# Altium integrated library Linear Technology Power Management Switching Regulator LTC1174-LTC3901.IntLib: 2647 symbols (part 248 of 364)
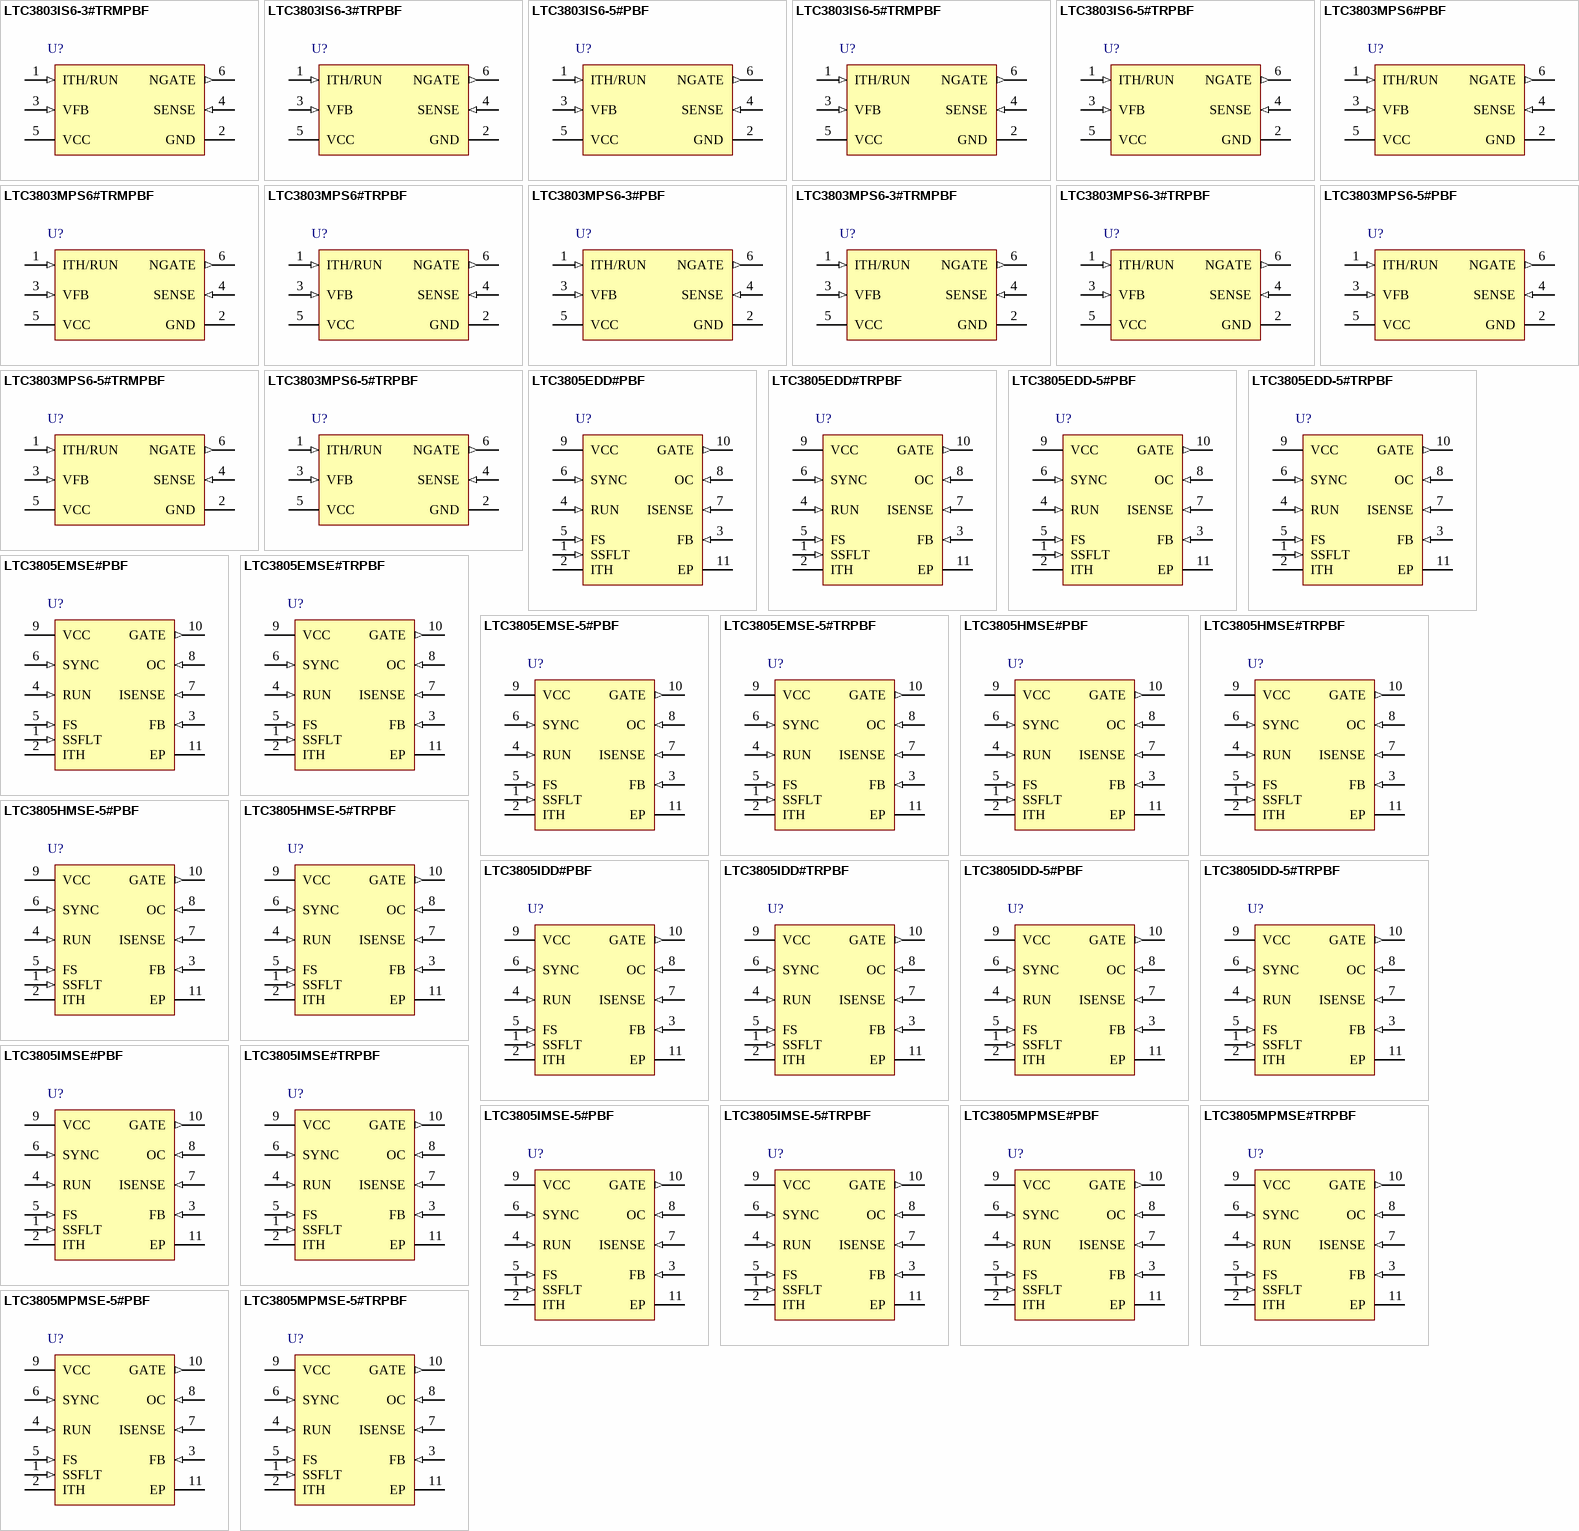
[diagram p243: symbols LTC3803IS6-3#TRMPBF to LTC3805MPMSE-5#TRPBF]

## LTC3805HMSE-5#PBF
designator U?
Adjustable Frequency Current Mode Flyback / Boost / SEPIC DC/DC Controller, 10-pin SOP (MSE-10-EDP), -40 to 150 degC, Pb-Free; Manufacturer: Linear Technology; PartNumber: LTC3805HMSE-5#PBF; Frequency Sync Range: 70kHz - 700kHz; Number of Outputs: 1; DatasheetVersion: Rev. E; PackageVersion: Rev. I, 05/2013; PackageReference: MSE-10; PackageDescription: 10-Pin Plastic MSOP, Exposed Die Pad, Body 3 x 3 mm, Pitch 0.5 mm; Supplier 1: Digi-Key; Supplier Part Number 1: LTC3805HMSE-5#PBF-ND; Supplier 2: Farnell; Supplier Part Number 2: 1696248; Supplier 3: Newark; Supplier Part Number 3: 51P3119; RoHS: TRUE; Mounting Technology: Surface Mount; ComponentLink1Description: Manufacturer URL; ComponentLink1URL: http://www.linear.com/; ComponentLink2Description: Datasheet; ComponentLink2URL: http://cds.linear.com/docs/en/datasheet/38055fd.pdf; ComponentLink3Description: Package Specification; ComponentLink3URL: http://cds.linear.com/docs/en/packaging/05081664_I_MSE.pdf
footprint LT-MSE-10-EDP_N (SOP, 10-Leads, Body 3.1x3.1mm, Pitch 0.5mm, Thermal Pad 1.88x1.68mm, IPC Medium Density)
footprint LT-MSE-10-EDP_L (SOP, 10-Leads, Body 3.1x3.1mm, Pitch 0.5mm, Thermal Pad 1.88x1.68mm, IPC High Density)
footprint LT-MSE-10-EDP_M (SOP, 10-Leads, Body 3.1x3.1mm, Pitch 0.5mm, Thermal Pad 1.88x1.68mm, IPC Low Density)
pins: 1 SSFLT (in) "Soft-Start Pin. A capacitor placed from this pin to GND (Exposed Pad) controls the rate of rise of converter output voltage during start-up. This capacitor is also used for time out after a fault prior to restart.", 2 ITH "Error Amplifier Compensation Point. Normal operating voltage range is clamped between 0.7V and 1.9V.", 3 FB (in) "Receives the feedback voltage from an external resistor divider across the output.", 4 RUN (in) "An external resistor divider connects this pin to VIN and sets the thresholds for converter operation.", 5 FS (in) "A resistor connected from this pin to ground sets the frequency of operation.", 6 SYNC (in) "Input to synchronize the oscillator to an external source.", 7 ISENSE (in) "Performs two functions: for current mode control, it monitors the switch current, using the voltage across an external current sense resistor. Pin 7 also injects a current ramp that develops slope compensation voltage across (See Datasheet)", 8 OC (in) "Overcurrent Pin. Connect this pin to the external switch current sense resistor. An additional resistor programs the overcurrent trip level.", 9 VCC (power) "Supply Pin. A capacitor must closely decouple VCC to GND (Exposed Pad).", 10 GATE (out) "Gate Drive for the External N-Channel MOSFET. This pin swings from GND to VCC.", 11 EP (power) "Ground. A capacitor must closely decouple GND to VCC (Pin 9). The exposed pad must be soldered to electrical ground on PCB for electrical contact and rated thermal performance."

## LTC3805HMSE-5#TRPBF
designator U?
Adjustable Frequency Current Mode Flyback / Boost / SEPIC DC/DC Controller, 10-pin SOP (MSE-10-EDP), -40 to 150 degC, Pb-Free, Tape and Reel; Manufacturer: Linear Technology; PartNumber: LTC3805HMSE-5#TRPBF; Frequency Sync Range: 70kHz - 700kHz; Number of Outputs: 1; DatasheetVersion: Rev. E; PackageVersion: Rev. I, 05/2013; PackageReference: MSE-10; PackageDescription: 10-Pin Plastic MSOP, Exposed Die Pad, Body 3 x 3 mm, Pitch 0.5 mm; Supplier 1: Digi-Key; Supplier Part Number 1: LTC3805HMSE-5#TRPBF-ND; Packing: Tape and Reel; RoHS: TRUE; Mounting Technology: Surface Mount; ComponentLink1Description: Manufacturer URL; ComponentLink1URL: http://www.linear.com/; ComponentLink2Description: Datasheet; ComponentLink2URL: http://cds.linear.com/docs/en/datasheet/38055fd.pdf; ComponentLink3Description: Package Specification; ComponentLink3URL: http://cds.linear.com/docs/en/packaging/05081664_I_MSE.pdf
footprint LT-MSE-10-EDP_N (SOP, 10-Leads, Body 3.1x3.1mm, Pitch 0.5mm, Thermal Pad 1.88x1.68mm, IPC Medium Density)
footprint LT-MSE-10-EDP_L (SOP, 10-Leads, Body 3.1x3.1mm, Pitch 0.5mm, Thermal Pad 1.88x1.68mm, IPC High Density)
footprint LT-MSE-10-EDP_M (SOP, 10-Leads, Body 3.1x3.1mm, Pitch 0.5mm, Thermal Pad 1.88x1.68mm, IPC Low Density)
pins: 1 SSFLT (in) "Soft-Start Pin. A capacitor placed from this pin to GND (Exposed Pad) controls the rate of rise of converter output voltage during start-up. This capacitor is also used for time out after a fault prior to restart.", 2 ITH "Error Amplifier Compensation Point. Normal operating voltage range is clamped between 0.7V and 1.9V.", 3 FB (in) "Receives the feedback voltage from an external resistor divider across the output.", 4 RUN (in) "An external resistor divider connects this pin to VIN and sets the thresholds for converter operation.", 5 FS (in) "A resistor connected from this pin to ground sets the frequency of operation.", 6 SYNC (in) "Input to synchronize the oscillator to an external source.", 7 ISENSE (in) "Performs two functions: for current mode control, it monitors the switch current, using the voltage across an external current sense resistor. Pin 7 also injects a current ramp that develops slope compensation voltage across (See Datasheet)", 8 OC (in) "Overcurrent Pin. Connect this pin to the external switch current sense resistor. An additional resistor programs the overcurrent trip level.", 9 VCC (power) "Supply Pin. A capacitor must closely decouple VCC to GND (Exposed Pad).", 10 GATE (out) "Gate Drive for the External N-Channel MOSFET. This pin swings from GND to VCC.", 11 EP (power) "Ground. A capacitor must closely decouple GND to VCC (Pin 9). The exposed pad must be soldered to electrical ground on PCB for electrical contact and rated thermal performance."

## LTC3805IDD#PBF
designator U?
Adjustable Frequency Current Mode Flyback DC/DC Controller, 10-pin SON (DD-10), -40 to 125 degC, Pb-Free; Manufacturer: Linear Technology; PartNumber: LTC3805IDD#PBF; Frequency Sync Range: 70kHz - 700kHz; Number of Outputs: 1; DatasheetVersion: Rev. G; PackageVersion: Rev. C, 06/2010; PackageReference: DD-10; PackageDescription: 10-Pin Plastic DFN, Body 3 x 3 mm, Pitch 0.5 mm; Supplier 1: Digi-Key; Supplier Part Number 1: LTC3805IDD#PBF-ND; RoHS: TRUE; Mounting Technology: Surface Mount; Code_JEDEC: MO-229; ComponentLink1Description: Manufacturer URL; ComponentLink1URL: http://www.linear.com/; ComponentLink2Description: Datasheet; ComponentLink2URL: http://cds.linear.com/docs/en/datasheet/3805fg.pdf; ComponentLink3Description: Package Specification; ComponentLink3URL: http://cds.linear.com/docs/en/packaging/DFN_10_05-08-1699.pdf
footprint LT-DD-10_V (SON, 10-Leads, Body 3x3mm, Pitch 0.5mm, Thermal Pad 2.38x1.65mm)
pins: 1 SSFLT (in) "Soft-Start Pin. A capacitor placed from this pin to GND (Exposed Pad) controls the rate of rise of converter output voltage during start-up. This capacitor is also used for time out after a fault prior to restart.", 2 ITH "Error Amplifier Compensation Point. Normal operating voltage range is clamped between 0.7V and 1.9V.", 3 FB (in) "Receives the feedback voltage from an external resistor divider across the output.", 4 RUN (in) "An external resistor divider connects this pin to VIN and sets the thresholds for converter operation.", 5 FS (in) "A resistor connected from this pin to ground sets the frequency of operation.", 6 SYNC (in) "Input to synchronize the oscillator to an external source.", 7 ISENSE (in) "Performs two functions: for current mode control, it monitors the switch current, using the voltage across an external current sense resistor. Pin 7 also injects a current ramp that develops slope compensation voltage across (See Datasheet)", 8 OC (in) "Overcurrent Pin. Connect this pin to the external switch current sense resistor. An additional resistor programs the overcurrent trip level.", 9 VCC (power) "Supply Pin. A capacitor must closely decouple VCC to GND (Exposed Pad).", 10 GATE (out) "Gate Drive for the External N-Channel MOSFET. This pin swings from GND to VCC.", 11 EP (power) "Ground. A capacitor must closely decouple GND to VCC (Pin 9). The exposed pad must be soldered to electrical ground on PCB for electrical contact and rated thermal performance."

## LTC3805IDD#TRPBF
designator U?
Adjustable Frequency Current Mode Flyback DC/DC Controller, 10-pin SON (DD-10), -40 to 125 degC, Pb-Free, Tape and Reel; Manufacturer: Linear Technology; PartNumber: LTC3805IDD#TRPBF; Frequency Sync Range: 70kHz - 700kHz; Number of Outputs: 1; DatasheetVersion: Rev. G; PackageVersion: Rev. C, 06/2010; PackageReference: DD-10; PackageDescription: 10-Pin Plastic DFN, Body 3 x 3 mm, Pitch 0.5 mm; Supplier 1: Digi-Key; Supplier Part Number 1: LTC3805IDD#TRPBF-ND; Packing: Tape and Reel; RoHS: TRUE; Mounting Technology: Surface Mount; Code_JEDEC: MO-229; ComponentLink1Description: Manufacturer URL; ComponentLink1URL: http://www.linear.com/; ComponentLink2Description: Datasheet; ComponentLink2URL: http://cds.linear.com/docs/en/datasheet/3805fg.pdf; ComponentLink3Description: Package Specification; ComponentLink3URL: http://cds.linear.com/docs/en/packaging/DFN_10_05-08-1699.pdf
footprint LT-DD-10_V (SON, 10-Leads, Body 3x3mm, Pitch 0.5mm, Thermal Pad 2.38x1.65mm)
pins: 1 SSFLT (in) "Soft-Start Pin. A capacitor placed from this pin to GND (Exposed Pad) controls the rate of rise of converter output voltage during start-up. This capacitor is also used for time out after a fault prior to restart.", 2 ITH "Error Amplifier Compensation Point. Normal operating voltage range is clamped between 0.7V and 1.9V.", 3 FB (in) "Receives the feedback voltage from an external resistor divider across the output.", 4 RUN (in) "An external resistor divider connects this pin to VIN and sets the thresholds for converter operation.", 5 FS (in) "A resistor connected from this pin to ground sets the frequency of operation.", 6 SYNC (in) "Input to synchronize the oscillator to an external source.", 7 ISENSE (in) "Performs two functions: for current mode control, it monitors the switch current, using the voltage across an external current sense resistor. Pin 7 also injects a current ramp that develops slope compensation voltage across (See Datasheet)", 8 OC (in) "Overcurrent Pin. Connect this pin to the external switch current sense resistor. An additional resistor programs the overcurrent trip level.", 9 VCC (power) "Supply Pin. A capacitor must closely decouple VCC to GND (Exposed Pad).", 10 GATE (out) "Gate Drive for the External N-Channel MOSFET. This pin swings from GND to VCC.", 11 EP (power) "Ground. A capacitor must closely decouple GND to VCC (Pin 9). The exposed pad must be soldered to electrical ground on PCB for electrical contact and rated thermal performance."

## LTC3805IDD-5#PBF
designator U?
Adjustable Frequency Current Mode Flyback / Boost / SEPIC DC/DC Controller, 10-pin SON (DD-10), -40 to 125 degC, Pb-Free; Manufacturer: Linear Technology; PartNumber: LTC3805IDD-5#PBF; Frequency Sync Range: 70kHz - 700kHz; Number of Outputs: 1; DatasheetVersion: Rev. E; PackageVersion: Rev. C, 06/2010; PackageReference: DD-10; PackageDescription: 10-Pin Plastic DFN, Body 3 x 3 mm, Pitch 0.5 mm; Supplier 1: Digi-Key; Supplier Part Number 1: LTC3805IDD-5#PBF-ND; RoHS: TRUE; Mounting Technology: Surface Mount; Code_JEDEC: MO-229; ComponentLink1Description: Manufacturer URL; ComponentLink1URL: http://www.linear.com/; ComponentLink2Description: Datasheet; ComponentLink2URL: http://cds.linear.com/docs/en/datasheet/38055fd.pdf; ComponentLink3Description: Package Specification; ComponentLink3URL: http://cds.linear.com/docs/en/packaging/DFN_10_05-08-1699.pdf
footprint LT-DD-10_V (SON, 10-Leads, Body 3x3mm, Pitch 0.5mm, Thermal Pad 2.38x1.65mm)
pins: 1 SSFLT (in) "Soft-Start Pin. A capacitor placed from this pin to GND (Exposed Pad) controls the rate of rise of converter output voltage during start-up. This capacitor is also used for time out after a fault prior to restart.", 2 ITH "Error Amplifier Compensation Point. Normal operating voltage range is clamped between 0.7V and 1.9V.", 3 FB (in) "Receives the feedback voltage from an external resistor divider across the output.", 4 RUN (in) "An external resistor divider connects this pin to VIN and sets the thresholds for converter operation.", 5 FS (in) "A resistor connected from this pin to ground sets the frequency of operation.", 6 SYNC (in) "Input to synchronize the oscillator to an external source.", 7 ISENSE (in) "Performs two functions: for current mode control, it monitors the switch current, using the voltage across an external current sense resistor. Pin 7 also injects a current ramp that develops slope compensation voltage across (See Datasheet)", 8 OC (in) "Overcurrent Pin. Connect this pin to the external switch current sense resistor. An additional resistor programs the overcurrent trip level.", 9 VCC (power) "Supply Pin. A capacitor must closely decouple VCC to GND (Exposed Pad).", 10 GATE (out) "Gate Drive for the External N-Channel MOSFET. This pin swings from GND to VCC.", 11 EP (power) "Ground. A capacitor must closely decouple GND to VCC (Pin 9). The exposed pad must be soldered to electrical ground on PCB for electrical contact and rated thermal performance."

## LTC3805IDD-5#TRPBF
designator U?
Adjustable Frequency Current Mode Flyback / Boost / SEPIC DC/DC Controller, 10-pin SON (DD-10), -40 to 125 degC, Pb-Free, Tape and Reel; Manufacturer: Linear Technology; PartNumber: LTC3805IDD-5#TRPBF; Frequency Sync Range: 70kHz - 700kHz; Number of Outputs: 1; DatasheetVersion: Rev. E; PackageVersion: Rev. C, 06/2010; PackageReference: DD-10; PackageDescription: 10-Pin Plastic DFN, Body 3 x 3 mm, Pitch 0.5 mm; Supplier 1: Digi-Key; Supplier Part Number 1: LTC3805IDD-5#TRPBF-ND; Packing: Tape and Reel; RoHS: TRUE; Mounting Technology: Surface Mount; Code_JEDEC: MO-229; ComponentLink1Description: Manufacturer URL; ComponentLink1URL: http://www.linear.com/; ComponentLink2Description: Datasheet; ComponentLink2URL: http://cds.linear.com/docs/en/datasheet/38055fd.pdf; ComponentLink3Description: Package Specification; ComponentLink3URL: http://cds.linear.com/docs/en/packaging/DFN_10_05-08-1699.pdf
footprint LT-DD-10_V (SON, 10-Leads, Body 3x3mm, Pitch 0.5mm, Thermal Pad 2.38x1.65mm)
pins: 1 SSFLT (in) "Soft-Start Pin. A capacitor placed from this pin to GND (Exposed Pad) controls the rate of rise of converter output voltage during start-up. This capacitor is also used for time out after a fault prior to restart.", 2 ITH "Error Amplifier Compensation Point. Normal operating voltage range is clamped between 0.7V and 1.9V.", 3 FB (in) "Receives the feedback voltage from an external resistor divider across the output.", 4 RUN (in) "An external resistor divider connects this pin to VIN and sets the thresholds for converter operation.", 5 FS (in) "A resistor connected from this pin to ground sets the frequency of operation.", 6 SYNC (in) "Input to synchronize the oscillator to an external source.", 7 ISENSE (in) "Performs two functions: for current mode control, it monitors the switch current, using the voltage across an external current sense resistor. Pin 7 also injects a current ramp that develops slope compensation voltage across (See Datasheet)", 8 OC (in) "Overcurrent Pin. Connect this pin to the external switch current sense resistor. An additional resistor programs the overcurrent trip level.", 9 VCC (power) "Supply Pin. A capacitor must closely decouple VCC to GND (Exposed Pad).", 10 GATE (out) "Gate Drive for the External N-Channel MOSFET. This pin swings from GND to VCC.", 11 EP (power) "Ground. A capacitor must closely decouple GND to VCC (Pin 9). The exposed pad must be soldered to electrical ground on PCB for electrical contact and rated thermal performance."

## LTC3805IMSE#PBF
designator U?
Adjustable Frequency Current Mode Flyback DC/DC Controller, 10-pin SOP (MSE-10-EDP), -40 to 125 degC, Pb-Free; Manufacturer: Linear Technology; PartNumber: LTC3805IMSE#PBF; Frequency Sync Range: 70kHz - 700kHz; Number of Outputs: 1; DatasheetVersion: Rev. G; PackageVersion: Rev. I, 05/2013; PackageReference: MSE-10; PackageDescription: 10-Pin Plastic MSOP, Exposed Die Pad, Body 3 x 3 mm, Pitch 0.5 mm; Supplier 1: Digi-Key; Supplier Part Number 1: LTC3805IMSE#PBF-ND; Supplier 2: Farnell; Supplier Part Number 2: 2295150; Supplier 3: Newark; Supplier Part Number 3: 72R5690; RoHS: TRUE; Mounting Technology: Surface Mount; ComponentLink1Description: Manufacturer URL; ComponentLink1URL: http://www.linear.com/; ComponentLink2Description: Datasheet; ComponentLink2URL: http://cds.linear.com/docs/en/datasheet/3805fg.pdf; ComponentLink3Description: Package Specification; ComponentLink3URL: http://cds.linear.com/docs/en/packaging/05081664_I_MSE.pdf
footprint LT-MSE-10-EDP_N (SOP, 10-Leads, Body 3.1x3.1mm, Pitch 0.5mm, Thermal Pad 1.88x1.68mm, IPC Medium Density)
footprint LT-MSE-10-EDP_L (SOP, 10-Leads, Body 3.1x3.1mm, Pitch 0.5mm, Thermal Pad 1.88x1.68mm, IPC High Density)
footprint LT-MSE-10-EDP_M (SOP, 10-Leads, Body 3.1x3.1mm, Pitch 0.5mm, Thermal Pad 1.88x1.68mm, IPC Low Density)
pins: 1 SSFLT (in) "Soft-Start Pin. A capacitor placed from this pin to GND (Exposed Pad) controls the rate of rise of converter output voltage during start-up. This capacitor is also used for time out after a fault prior to restart.", 2 ITH "Error Amplifier Compensation Point. Normal operating voltage range is clamped between 0.7V and 1.9V.", 3 FB (in) "Receives the feedback voltage from an external resistor divider across the output.", 4 RUN (in) "An external resistor divider connects this pin to VIN and sets the thresholds for converter operation.", 5 FS (in) "A resistor connected from this pin to ground sets the frequency of operation.", 6 SYNC (in) "Input to synchronize the oscillator to an external source.", 7 ISENSE (in) "Performs two functions: for current mode control, it monitors the switch current, using the voltage across an external current sense resistor. Pin 7 also injects a current ramp that develops slope compensation voltage across (See Datasheet)", 8 OC (in) "Overcurrent Pin. Connect this pin to the external switch current sense resistor. An additional resistor programs the overcurrent trip level.", 9 VCC (power) "Supply Pin. A capacitor must closely decouple VCC to GND (Exposed Pad).", 10 GATE (out) "Gate Drive for the External N-Channel MOSFET. This pin swings from GND to VCC.", 11 EP (power) "Ground. A capacitor must closely decouple GND to VCC (Pin 9). The exposed pad must be soldered to electrical ground on PCB for electrical contact and rated thermal performance."

## LTC3805IMSE#TRPBF
designator U?
Adjustable Frequency Current Mode Flyback DC/DC Controller, 10-pin SOP (MSE-10-EDP), -40 to 125 degC, Pb-Free, Tape and Reel; Manufacturer: Linear Technology; PartNumber: LTC3805IMSE#TRPBF; Frequency Sync Range: 70kHz - 700kHz; Number of Outputs: 1; DatasheetVersion: Rev. G; PackageVersion: Rev. I, 05/2013; PackageReference: MSE-10; PackageDescription: 10-Pin Plastic MSOP, Exposed Die Pad, Body 3 x 3 mm, Pitch 0.5 mm; Supplier 1: Digi-Key; Supplier Part Number 1: LTC3805IMSE#TRPBF-ND; Packing: Tape and Reel; RoHS: TRUE; Mounting Technology: Surface Mount; ComponentLink1Description: Manufacturer URL; ComponentLink1URL: http://www.linear.com/; ComponentLink2Description: Datasheet; ComponentLink2URL: http://cds.linear.com/docs/en/datasheet/3805fg.pdf; ComponentLink3Description: Package Specification; ComponentLink3URL: http://cds.linear.com/docs/en/packaging/05081664_I_MSE.pdf
footprint LT-MSE-10-EDP_N (SOP, 10-Leads, Body 3.1x3.1mm, Pitch 0.5mm, Thermal Pad 1.88x1.68mm, IPC Medium Density)
footprint LT-MSE-10-EDP_L (SOP, 10-Leads, Body 3.1x3.1mm, Pitch 0.5mm, Thermal Pad 1.88x1.68mm, IPC High Density)
footprint LT-MSE-10-EDP_M (SOP, 10-Leads, Body 3.1x3.1mm, Pitch 0.5mm, Thermal Pad 1.88x1.68mm, IPC Low Density)
pins: 1 SSFLT (in) "Soft-Start Pin. A capacitor placed from this pin to GND (Exposed Pad) controls the rate of rise of converter output voltage during start-up. This capacitor is also used for time out after a fault prior to restart.", 2 ITH "Error Amplifier Compensation Point. Normal operating voltage range is clamped between 0.7V and 1.9V.", 3 FB (in) "Receives the feedback voltage from an external resistor divider across the output.", 4 RUN (in) "An external resistor divider connects this pin to VIN and sets the thresholds for converter operation.", 5 FS (in) "A resistor connected from this pin to ground sets the frequency of operation.", 6 SYNC (in) "Input to synchronize the oscillator to an external source.", 7 ISENSE (in) "Performs two functions: for current mode control, it monitors the switch current, using the voltage across an external current sense resistor. Pin 7 also injects a current ramp that develops slope compensation voltage across (See Datasheet)", 8 OC (in) "Overcurrent Pin. Connect this pin to the external switch current sense resistor. An additional resistor programs the overcurrent trip level.", 9 VCC (power) "Supply Pin. A capacitor must closely decouple VCC to GND (Exposed Pad).", 10 GATE (out) "Gate Drive for the External N-Channel MOSFET. This pin swings from GND to VCC.", 11 EP (power) "Ground. A capacitor must closely decouple GND to VCC (Pin 9). The exposed pad must be soldered to electrical ground on PCB for electrical contact and rated thermal performance."

## LTC3805IMSE-5#PBF
designator U?
Adjustable Frequency Current Mode Flyback / Boost / SEPIC DC/DC Controller, 10-pin SOP (MSE-10-EDP), -40 to 125 degC, Pb-Free; Manufacturer: Linear Technology; PartNumber: LTC3805IMSE-5#PBF; Frequency Sync Range: 70kHz - 700kHz; Number of Outputs: 1; DatasheetVersion: Rev. E; PackageVersion: Rev. I, 05/2013; PackageReference: MSE-10; PackageDescription: 10-Pin Plastic MSOP, Exposed Die Pad, Body 3 x 3 mm, Pitch 0.5 mm; Supplier 1: Digi-Key; Supplier Part Number 1: LTC3805IMSE-5#PBF-ND; Supplier 2: Farnell; Supplier Part Number 2: 2295151; Supplier 3: Newark; Supplier Part Number 3: 79M3559; RoHS: TRUE; Mounting Technology: Surface Mount; ComponentLink1Description: Manufacturer URL; ComponentLink1URL: http://www.linear.com/; ComponentLink2Description: Datasheet; ComponentLink2URL: http://cds.linear.com/docs/en/datasheet/38055fd.pdf; ComponentLink3Description: Package Specification; ComponentLink3URL: http://cds.linear.com/docs/en/packaging/05081664_I_MSE.pdf
footprint LT-MSE-10-EDP_N (SOP, 10-Leads, Body 3.1x3.1mm, Pitch 0.5mm, Thermal Pad 1.88x1.68mm, IPC Medium Density)
footprint LT-MSE-10-EDP_L (SOP, 10-Leads, Body 3.1x3.1mm, Pitch 0.5mm, Thermal Pad 1.88x1.68mm, IPC High Density)
footprint LT-MSE-10-EDP_M (SOP, 10-Leads, Body 3.1x3.1mm, Pitch 0.5mm, Thermal Pad 1.88x1.68mm, IPC Low Density)
pins: 1 SSFLT (in) "Soft-Start Pin. A capacitor placed from this pin to GND (Exposed Pad) controls the rate of rise of converter output voltage during start-up. This capacitor is also used for time out after a fault prior to restart.", 2 ITH "Error Amplifier Compensation Point. Normal operating voltage range is clamped between 0.7V and 1.9V.", 3 FB (in) "Receives the feedback voltage from an external resistor divider across the output.", 4 RUN (in) "An external resistor divider connects this pin to VIN and sets the thresholds for converter operation.", 5 FS (in) "A resistor connected from this pin to ground sets the frequency of operation.", 6 SYNC (in) "Input to synchronize the oscillator to an external source.", 7 ISENSE (in) "Performs two functions: for current mode control, it monitors the switch current, using the voltage across an external current sense resistor. Pin 7 also injects a current ramp that develops slope compensation voltage across (See Datasheet)", 8 OC (in) "Overcurrent Pin. Connect this pin to the external switch current sense resistor. An additional resistor programs the overcurrent trip level.", 9 VCC (power) "Supply Pin. A capacitor must closely decouple VCC to GND (Exposed Pad).", 10 GATE (out) "Gate Drive for the External N-Channel MOSFET. This pin swings from GND to VCC.", 11 EP (power) "Ground. A capacitor must closely decouple GND to VCC (Pin 9). The exposed pad must be soldered to electrical ground on PCB for electrical contact and rated thermal performance."

## LTC3805IMSE-5#TRPBF
designator U?
Adjustable Frequency Current Mode Flyback / Boost / SEPIC DC/DC Controller, 10-pin SOP (MSE-10-EDP), -40 to 125 degC, Pb-Free, Tape and Reel; Manufacturer: Linear Technology; PartNumber: LTC3805IMSE-5#TRPBF; Frequency Sync Range: 70kHz - 700kHz; Number of Outputs: 1; DatasheetVersion: Rev. E; PackageVersion: Rev. C, 08/2009; PackageReference: MSE-10; PackageDescription: 10-Pin Plastic MSOP, Exposed Die Pad, Body 3 x 3 mm, Pitch 0.5 mm; Supplier 1: Digi-Key; Supplier Part Number 1: LTC3805IMSE-5#TRPBF-ND; Supplier 2: Newark; Supplier Part Number 2: 79M3560; Packing: Tape and Reel; RoHS: TRUE; Mounting Technology: Surface Mount; ComponentLink1Description: Manufacturer URL; ComponentLink1URL: http://www.linear.com/; ComponentLink2Description: Datasheet; ComponentLink2URL: http://cds.linear.com/docs/en/datasheet/38055fd.pdf; ComponentLink3Description: Package Specification; ComponentLink3URL: http://cds.linear.com/docs/en/datasheet/3481fc.pdf
footprint LT-MSE-10-EDP-2060x1830TP_N (SOP, 10-Leads, Body 3.1x3.1mm, Pitch 0.5mm, Thermal Pad 2.17x1.94mm, IPC Medium Density)
footprint LT-MSE-10-EDP-2060x1830TP_L (SOP, 10-Leads, Body 3.1x3.1mm, Pitch 0.5mm, Thermal Pad 2.17x1.94mm, IPC High Density)
footprint LT-MSE-10-EDP-2060x1830TP_M (SOP, 10-Leads, Body 3.1x3.1mm, Pitch 0.5mm, Thermal Pad 2.17x1.94mm, IPC Low Density)
pins: 1 SSFLT (in) "Soft-Start Pin. A capacitor placed from this pin to GND (Exposed Pad) controls the rate of rise of converter output voltage during start-up. This capacitor is also used for time out after a fault prior to restart.", 2 ITH "Error Amplifier Compensation Point. Normal operating voltage range is clamped between 0.7V and 1.9V.", 3 FB (in) "Receives the feedback voltage from an external resistor divider across the output.", 4 RUN (in) "An external resistor divider connects this pin to VIN and sets the thresholds for converter operation.", 5 FS (in) "A resistor connected from this pin to ground sets the frequency of operation.", 6 SYNC (in) "Input to synchronize the oscillator to an external source.", 7 ISENSE (in) "Performs two functions: for current mode control, it monitors the switch current, using the voltage across an external current sense resistor. Pin 7 also injects a current ramp that develops slope compensation voltage across (See Datasheet)", 8 OC (in) "Overcurrent Pin. Connect this pin to the external switch current sense resistor. An additional resistor programs the overcurrent trip level.", 9 VCC (power) "Supply Pin. A capacitor must closely decouple VCC to GND (Exposed Pad).", 10 GATE (out) "Gate Drive for the External N-Channel MOSFET. This pin swings from GND to VCC.", 11 EP (power) "Ground. A capacitor must closely decouple GND to VCC (Pin 9). The exposed pad must be soldered to electrical ground on PCB for electrical contact and rated thermal performance."

## LTC3805MPMSE#PBF
designator U?
Adjustable Frequency Current Mode Flyback DC/DC Controller, 10-pin SOP (MSE-10-EDP), -55 to 150 degC, Pb-Free; Manufacturer: Linear Technology; PartNumber: LTC3805MPMSE#PBF; Frequency Sync Range: 70kHz - 700kHz; Number of Outputs: 1; DatasheetVersion: Rev. G; PackageVersion: Rev. I, 05/2013; PackageReference: MSE-10; PackageDescription: 10-Pin Plastic MSOP, Exposed Die Pad, Body 3 x 3 mm, Pitch 0.5 mm; Supplier 1: Digi-Key; Supplier Part Number 1: LTC3805MPMSE#PBF-ND; RoHS: TRUE; Mounting Technology: Surface Mount; ComponentLink1Description: Manufacturer URL; ComponentLink1URL: http://www.linear.com/; ComponentLink2Description: Datasheet; ComponentLink2URL: http://cds.linear.com/docs/en/datasheet/3805fg.pdf; ComponentLink3Description: Package Specification; ComponentLink3URL: http://cds.linear.com/docs/en/packaging/05081664_I_MSE.pdf
footprint LT-MSE-10-EDP_N (SOP, 10-Leads, Body 3.1x3.1mm, Pitch 0.5mm, Thermal Pad 1.88x1.68mm, IPC Medium Density)
footprint LT-MSE-10-EDP_L (SOP, 10-Leads, Body 3.1x3.1mm, Pitch 0.5mm, Thermal Pad 1.88x1.68mm, IPC High Density)
footprint LT-MSE-10-EDP_M (SOP, 10-Leads, Body 3.1x3.1mm, Pitch 0.5mm, Thermal Pad 1.88x1.68mm, IPC Low Density)
pins: 1 SSFLT (in) "Soft-Start Pin. A capacitor placed from this pin to GND (Exposed Pad) controls the rate of rise of converter output voltage during start-up. This capacitor is also used for time out after a fault prior to restart.", 2 ITH "Error Amplifier Compensation Point. Normal operating voltage range is clamped between 0.7V and 1.9V.", 3 FB (in) "Receives the feedback voltage from an external resistor divider across the output.", 4 RUN (in) "An external resistor divider connects this pin to VIN and sets the thresholds for converter operation.", 5 FS (in) "A resistor connected from this pin to ground sets the frequency of operation.", 6 SYNC (in) "Input to synchronize the oscillator to an external source.", 7 ISENSE (in) "Performs two functions: for current mode control, it monitors the switch current, using the voltage across an external current sense resistor. Pin 7 also injects a current ramp that develops slope compensation voltage across (See Datasheet)", 8 OC (in) "Overcurrent Pin. Connect this pin to the external switch current sense resistor. An additional resistor programs the overcurrent trip level.", 9 VCC (power) "Supply Pin. A capacitor must closely decouple VCC to GND (Exposed Pad).", 10 GATE (out) "Gate Drive for the External N-Channel MOSFET. This pin swings from GND to VCC.", 11 EP (power) "Ground. A capacitor must closely decouple GND to VCC (Pin 9). The exposed pad must be soldered to electrical ground on PCB for electrical contact and rated thermal performance."

## LTC3805MPMSE#TRPBF
designator U?
Adjustable Frequency Current Mode Flyback DC/DC Controller, 10-pin SOP (MSE-10-EDP), -55 to 150 degC, Pb-Free, Tape and Reel; Manufacturer: Linear Technology; PartNumber: LTC3805MPMSE#TRPBF; Frequency Sync Range: 70kHz - 700kHz; Number of Outputs: 1; DatasheetVersion: Rev. G; PackageVersion: Rev. I, 05/2013; PackageReference: MSE-10; PackageDescription: 10-Pin Plastic MSOP, Exposed Die Pad, Body 3 x 3 mm, Pitch 0.5 mm; Supplier 1: Digi-Key; Supplier Part Number 1: LTC3805MPMSE#TRPBF-ND; Packing: Tape and Reel; RoHS: TRUE; Mounting Technology: Surface Mount; ComponentLink1Description: Manufacturer URL; ComponentLink1URL: http://www.linear.com/; ComponentLink2Description: Datasheet; ComponentLink2URL: http://cds.linear.com/docs/en/datasheet/3805fg.pdf; ComponentLink3Description: Package Specification; ComponentLink3URL: http://cds.linear.com/docs/en/packaging/05081664_I_MSE.pdf
footprint LT-MSE-10-EDP_N (SOP, 10-Leads, Body 3.1x3.1mm, Pitch 0.5mm, Thermal Pad 1.88x1.68mm, IPC Medium Density)
footprint LT-MSE-10-EDP_L (SOP, 10-Leads, Body 3.1x3.1mm, Pitch 0.5mm, Thermal Pad 1.88x1.68mm, IPC High Density)
footprint LT-MSE-10-EDP_M (SOP, 10-Leads, Body 3.1x3.1mm, Pitch 0.5mm, Thermal Pad 1.88x1.68mm, IPC Low Density)
pins: 1 SSFLT (in) "Soft-Start Pin. A capacitor placed from this pin to GND (Exposed Pad) controls the rate of rise of converter output voltage during start-up. This capacitor is also used for time out after a fault prior to restart.", 2 ITH "Error Amplifier Compensation Point. Normal operating voltage range is clamped between 0.7V and 1.9V.", 3 FB (in) "Receives the feedback voltage from an external resistor divider across the output.", 4 RUN (in) "An external resistor divider connects this pin to VIN and sets the thresholds for converter operation.", 5 FS (in) "A resistor connected from this pin to ground sets the frequency of operation.", 6 SYNC (in) "Input to synchronize the oscillator to an external source.", 7 ISENSE (in) "Performs two functions: for current mode control, it monitors the switch current, using the voltage across an external current sense resistor. Pin 7 also injects a current ramp that develops slope compensation voltage across (See Datasheet)", 8 OC (in) "Overcurrent Pin. Connect this pin to the external switch current sense resistor. An additional resistor programs the overcurrent trip level.", 9 VCC (power) "Supply Pin. A capacitor must closely decouple VCC to GND (Exposed Pad).", 10 GATE (out) "Gate Drive for the External N-Channel MOSFET. This pin swings from GND to VCC.", 11 EP (power) "Ground. A capacitor must closely decouple GND to VCC (Pin 9). The exposed pad must be soldered to electrical ground on PCB for electrical contact and rated thermal performance."

## LTC3805MPMSE-5#PBF
designator U?
Adjustable Frequency Current Mode Flyback / Boost / SEPIC DC/DC Controller, 10-pin SOP (MSE-10-EDP), -55 to 150 degC, Pb-Free; Manufacturer: Linear Technology; PartNumber: LTC3805MPMSE-5#PBF; Frequency Sync Range: 70kHz - 700kHz; Number of Outputs: 1; DatasheetVersion: Rev. E; PackageVersion: Rev. C, 08/2009; PackageReference: MSE-10; PackageDescription: 10-Pin Plastic MSOP, Exposed Die Pad, Body 3 x 3 mm, Pitch 0.5 mm; Supplier 1: Digi-Key; Supplier Part Number 1: LTC3805MPMSE-5#PBF-ND; Supplier 2: Newark; Supplier Part Number 2: 59T5630; RoHS: TRUE; Mounting Technology: Surface Mount; ComponentLink1Description: Manufacturer URL; ComponentLink1URL: http://www.linear.com/; ComponentLink2Description: Datasheet; ComponentLink2URL: http://cds.linear.com/docs/en/datasheet/38055fd.pdf; ComponentLink3Description: Package Specification; ComponentLink3URL: http://cds.linear.com/docs/en/datasheet/3481fc.pdf
footprint LT-MSE-10-EDP-2060x1830TP_N (SOP, 10-Leads, Body 3.1x3.1mm, Pitch 0.5mm, Thermal Pad 2.17x1.94mm, IPC Medium Density)
footprint LT-MSE-10-EDP-2060x1830TP_L (SOP, 10-Leads, Body 3.1x3.1mm, Pitch 0.5mm, Thermal Pad 2.17x1.94mm, IPC High Density)
footprint LT-MSE-10-EDP-2060x1830TP_M (SOP, 10-Leads, Body 3.1x3.1mm, Pitch 0.5mm, Thermal Pad 2.17x1.94mm, IPC Low Density)
pins: 1 SSFLT (in) "Soft-Start Pin. A capacitor placed from this pin to GND (Exposed Pad) controls the rate of rise of converter output voltage during start-up. This capacitor is also used for time out after a fault prior to restart.", 2 ITH "Error Amplifier Compensation Point. Normal operating voltage range is clamped between 0.7V and 1.9V.", 3 FB (in) "Receives the feedback voltage from an external resistor divider across the output.", 4 RUN (in) "An external resistor divider connects this pin to VIN and sets the thresholds for converter operation.", 5 FS (in) "A resistor connected from this pin to ground sets the frequency of operation.", 6 SYNC (in) "Input to synchronize the oscillator to an external source.", 7 ISENSE (in) "Performs two functions: for current mode control, it monitors the switch current, using the voltage across an external current sense resistor. Pin 7 also injects a current ramp that develops slope compensation voltage across (See Datasheet)", 8 OC (in) "Overcurrent Pin. Connect this pin to the external switch current sense resistor. An additional resistor programs the overcurrent trip level.", 9 VCC (power) "Supply Pin. A capacitor must closely decouple VCC to GND (Exposed Pad).", 10 GATE (out) "Gate Drive for the External N-Channel MOSFET. This pin swings from GND to VCC.", 11 EP (power) "Ground. A capacitor must closely decouple GND to VCC (Pin 9). The exposed pad must be soldered to electrical ground on PCB for electrical contact and rated thermal performance."

## LTC3805MPMSE-5#TRPBF
designator U?
Adjustable Frequency Current Mode Flyback / Boost / SEPIC DC/DC Controller, 10-pin SOP (MSE-10-EDP), -55 to 150 degC, Pb-Free, Tape and Reel; Manufacturer: Linear Technology; PartNumber: LTC3805MPMSE-5#TRPBF; Frequency Sync Range: 70kHz - 700kHz; Number of Outputs: 1; DatasheetVersion: Rev. E; PackageVersion: Rev. C, 08/2009; PackageReference: MSE-10; PackageDescription: 10-Pin Plastic MSOP, Exposed Die Pad, Body 3 x 3 mm, Pitch 0.5 mm; Supplier 1: Digi-Key; Supplier Part Number 1: LTC3805MPMSE-5#TRPBF-ND; Packing: Tape and Reel; RoHS: TRUE; Mounting Technology: Surface Mount; ComponentLink1Description: Manufacturer URL; ComponentLink1URL: http://www.linear.com/; ComponentLink2Description: Datasheet; ComponentLink2URL: http://cds.linear.com/docs/en/datasheet/38055fd.pdf; ComponentLink3Description: Package Specification; ComponentLink3URL: http://cds.linear.com/docs/en/datasheet/3481fc.pdf
footprint LT-MSE-10-EDP-2060x1830TP_N (SOP, 10-Leads, Body 3.1x3.1mm, Pitch 0.5mm, Thermal Pad 2.17x1.94mm, IPC Medium Density)
footprint LT-MSE-10-EDP-2060x1830TP_L (SOP, 10-Leads, Body 3.1x3.1mm, Pitch 0.5mm, Thermal Pad 2.17x1.94mm, IPC High Density)
footprint LT-MSE-10-EDP-2060x1830TP_M (SOP, 10-Leads, Body 3.1x3.1mm, Pitch 0.5mm, Thermal Pad 2.17x1.94mm, IPC Low Density)
pins: 1 SSFLT (in) "Soft-Start Pin. A capacitor placed from this pin to GND (Exposed Pad) controls the rate of rise of converter output voltage during start-up. This capacitor is also used for time out after a fault prior to restart.", 2 ITH "Error Amplifier Compensation Point. Normal operating voltage range is clamped between 0.7V and 1.9V.", 3 FB (in) "Receives the feedback voltage from an external resistor divider across the output.", 4 RUN (in) "An external resistor divider connects this pin to VIN and sets the thresholds for converter operation.", 5 FS (in) "A resistor connected from this pin to ground sets the frequency of operation.", 6 SYNC (in) "Input to synchronize the oscillator to an external source.", 7 ISENSE (in) "Performs two functions: for current mode control, it monitors the switch current, using the voltage across an external current sense resistor. Pin 7 also injects a current ramp that develops slope compensation voltage across (See Datasheet)", 8 OC (in) "Overcurrent Pin. Connect this pin to the external switch current sense resistor. An additional resistor programs the overcurrent trip level.", 9 VCC (power) "Supply Pin. A capacitor must closely decouple VCC to GND (Exposed Pad).", 10 GATE (out) "Gate Drive for the External N-Channel MOSFET. This pin swings from GND to VCC.", 11 EP (power) "Ground. A capacitor must closely decouple GND to VCC (Pin 9). The exposed pad must be soldered to electrical ground on PCB for electrical contact and rated thermal performance."

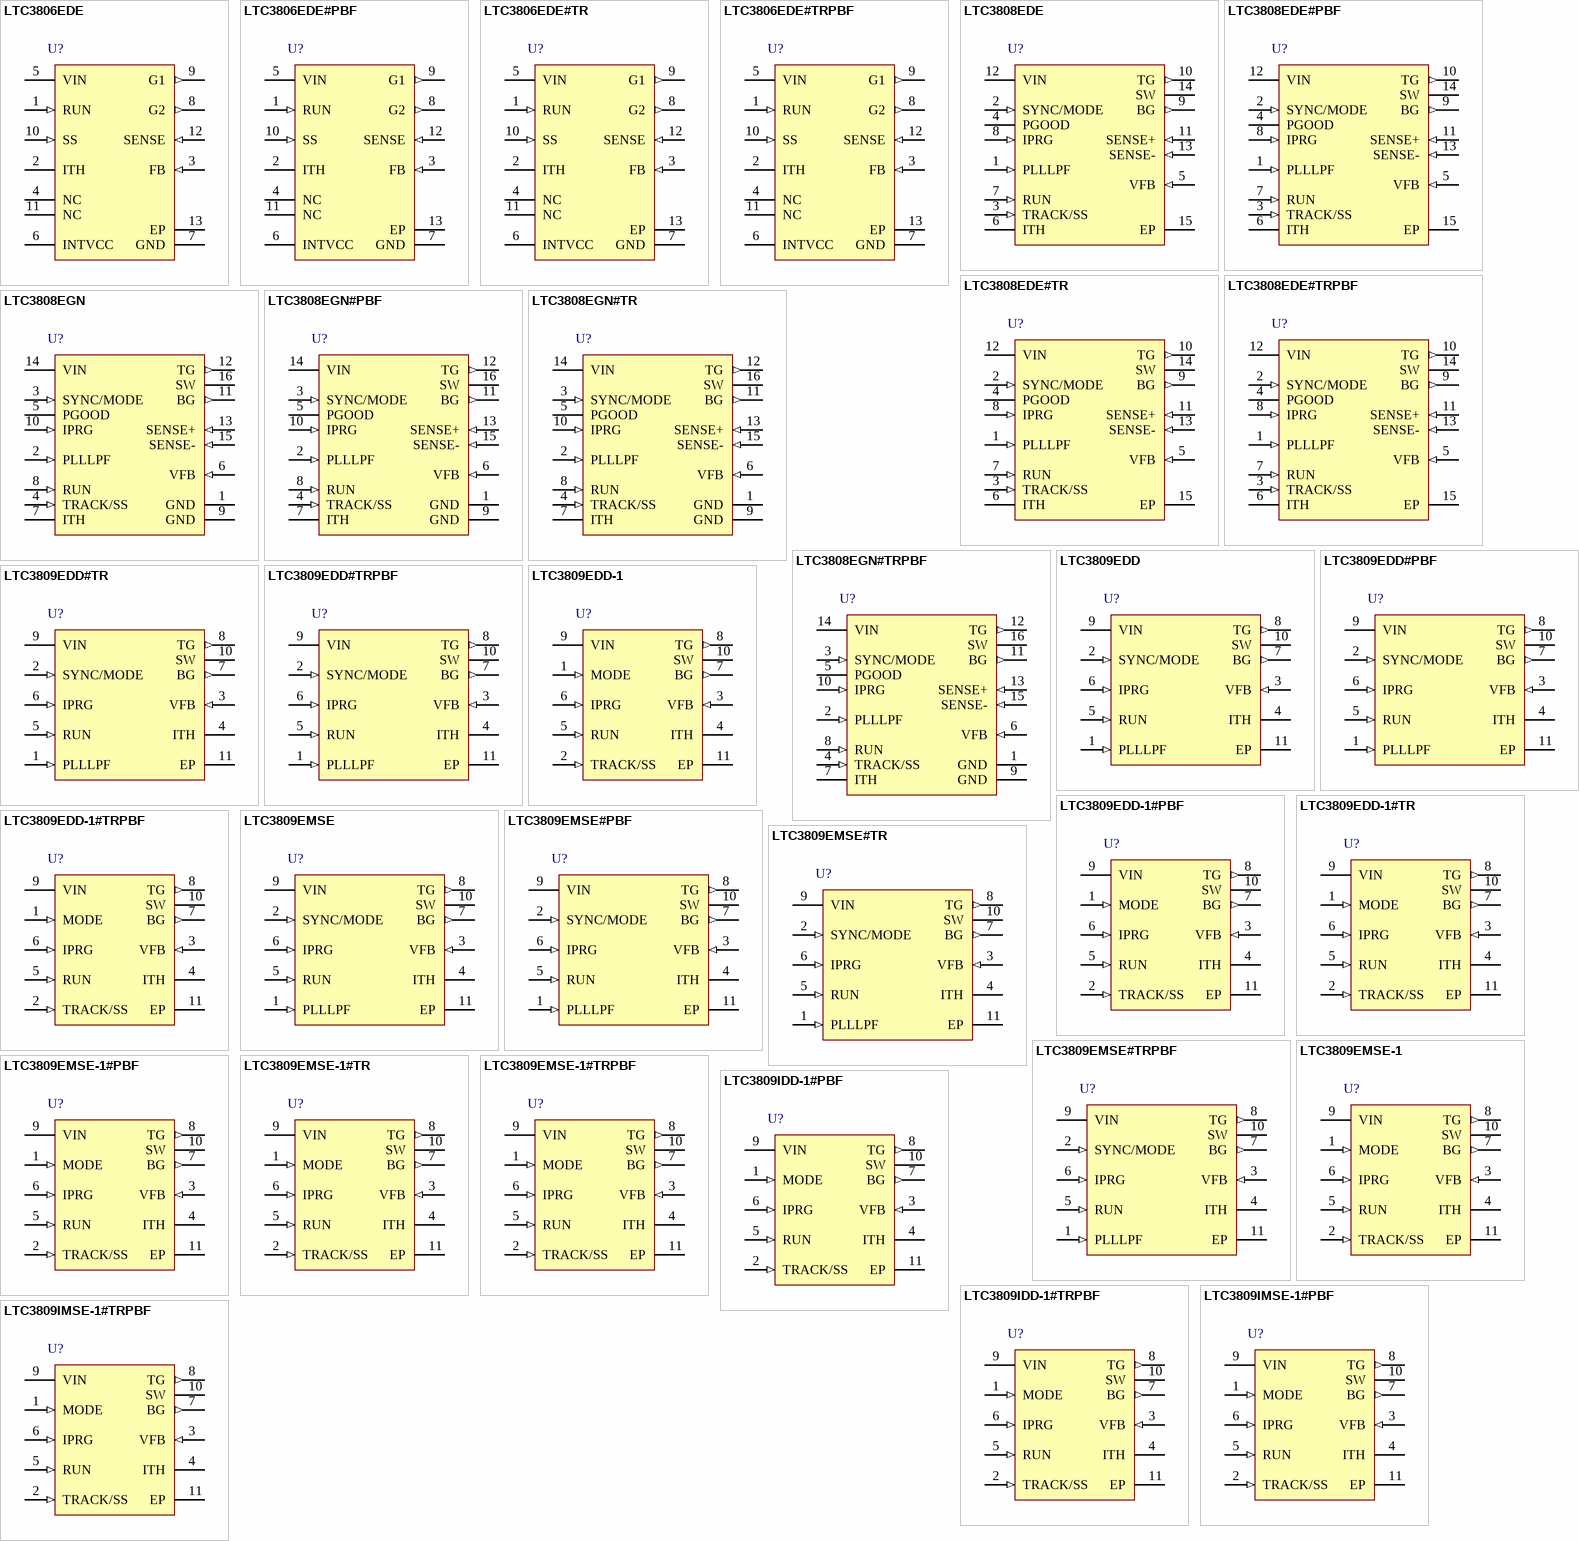
[diagram p77: symbols LTC3806EDE to LTC3809IMSE-1#TRPBF]

## LTC3806EDE
designator U?
Synchronous Flyback DC/DC Controller Min, 12-pin SON (DE-UE-12), -40 to 85 degC; Manufacturer: Linear Technology; PartNumber: LTC3806EDE; Number of Outputs: 1; DatasheetVersion: Rev. B; PackageVersion: Rev. D, 06/2010; PackageReference: DE-UE-12; PackageDescription: 12-Pin Plastic DFN, Body 4 x 3 mm, Pitch 0.5 mm; Supplier 1: Digi-Key; Supplier Part Number 1: LTC3806EDE-ND; RoHS: FALSE; Mounting Technology: Surface Mount; Code_JEDEC: MO-229; ComponentLink1Description: Manufacturer URL; ComponentLink1URL: http://www.linear.com/; ComponentLink2Description: Datasheet; ComponentLink2URL: http://cds.linear.com/docs/en/datasheet/3806fb.pdf; ComponentLink3Description: Package Specification; ComponentLink3URL: http://cds.linear.com/docs/en/packaging/DFN_12_05-08-1695.pdf
footprint LT-DE-UE-12_V (SON, 12-Leads, Body 4x3mm, Pitch 0.5mm, Thermal Pad 3.3x1.7mm)
pins: 1 RUN (in) "The RUN pin provides the user with an accurate means for sensing the input voltage and programming the start-up threshold for the converter. The falling RUN pin threshold is nominally 1.14V and the comparator has 91mV of (See Datasheet)", 2 ITH "Error Amplifier Compensation Pin. The current comparator input threshold increases with this control voltage. Nominal voltage range for this pin is 0V to 1.4V.", 3 FB (in) "Receives the feedback voltage from the external resistor divider across the main output. Nominal voltage for this pin in regulation is 1.230V.", 4 NC "Do Not Connect.", 5 VIN (power) "Main Supply Pin. Must be closely decoupled to ground.", 6 INTVCC (power) "The Internal 6.9V Regulator Output. The gate drivers and control circuits are powered from this voltage. Decouple this pin locally to the IC ground with a minimum 4.7uF low ESR ceramic capacitor.", 7 GND (power) "Ground Pins. Exposed pad must be tied to electrical ground.", 8 G2 (out) "Secondary-Side Gate Driver Output. This pin drives the gates of all of the synchronous rectifiers.", 9 G1 (out) "Primary-Side Gate Driver Output.", 10 SS (in) "Soft-Start. A capacitor between this pin and ground sets the rate at which the current comparator input threshold may increase when the IC is initially enabled. Increasing the size of the capacitor slows down the ramp rate (See Datasheet)", 11 NC "Do Not Connect.", 12 SENSE (in) "Current Sense Input for the Control Loop. Connect this pin to the current sense resistor in the source of the primary side power MOSFET. Internal leading edge blanking is provided.", 13 EP (power) "Ground Pins. Exposed pad must be tied to electrical ground."

## LTC3806EDE#PBF
designator U?
Synchronous Flyback DC/DC Controller Min, 12-pin SON (DE-UE-12), -40 to 85 degC, Pb-Free; Manufacturer: Linear Technology; PartNumber: LTC3806EDE#PBF; Number of Outputs: 1; DatasheetVersion: Rev. B; PackageVersion: Rev. D, 06/2010; PackageReference: DE-UE-12; PackageDescription: 12-Pin Plastic DFN, Body 4 x 3 mm, Pitch 0.5 mm; Supplier 1: Digi-Key; Supplier Part Number 1: LTC3806EDE#PBF-ND; Supplier 2: Newark; Supplier Part Number 2: 56M8465; RoHS: TRUE; Mounting Technology: Surface Mount; Code_JEDEC: MO-229; ComponentLink1Description: Manufacturer URL; ComponentLink1URL: http://www.linear.com/; ComponentLink2Description: Datasheet; ComponentLink2URL: http://cds.linear.com/docs/en/datasheet/3806fb.pdf; ComponentLink3Description: Package Specification; ComponentLink3URL: http://cds.linear.com/docs/en/packaging/DFN_12_05-08-1695.pdf
footprint LT-DE-UE-12_V (SON, 12-Leads, Body 4x3mm, Pitch 0.5mm, Thermal Pad 3.3x1.7mm)
pins: 1 RUN (in) "The RUN pin provides the user with an accurate means for sensing the input voltage and programming the start-up threshold for the converter. The falling RUN pin threshold is nominally 1.14V and the comparator has 91mV of (See Datasheet)", 2 ITH "Error Amplifier Compensation Pin. The current comparator input threshold increases with this control voltage. Nominal voltage range for this pin is 0V to 1.4V.", 3 FB (in) "Receives the feedback voltage from the external resistor divider across the main output. Nominal voltage for this pin in regulation is 1.230V.", 4 NC "Do Not Connect.", 5 VIN (power) "Main Supply Pin. Must be closely decoupled to ground.", 6 INTVCC (power) "The Internal 6.9V Regulator Output. The gate drivers and control circuits are powered from this voltage. Decouple this pin locally to the IC ground with a minimum 4.7uF low ESR ceramic capacitor.", 7 GND (power) "Ground Pins. Exposed pad must be tied to electrical ground.", 8 G2 (out) "Secondary-Side Gate Driver Output. This pin drives the gates of all of the synchronous rectifiers.", 9 G1 (out) "Primary-Side Gate Driver Output.", 10 SS (in) "Soft-Start. A capacitor between this pin and ground sets the rate at which the current comparator input threshold may increase when the IC is initially enabled. Increasing the size of the capacitor slows down the ramp rate (See Datasheet)", 11 NC "Do Not Connect.", 12 SENSE (in) "Current Sense Input for the Control Loop. Connect this pin to the current sense resistor in the source of the primary side power MOSFET. Internal leading edge blanking is provided.", 13 EP (power) "Ground Pins. Exposed pad must be tied to electrical ground."

## LTC3806EDE#TR
designator U?
Synchronous Flyback DC/DC Controller Min, 12-pin SON (DE-UE-12), -40 to 85 degC, Tape and Reel; Manufacturer: Linear Technology; PartNumber: LTC3806EDE#TR; Number of Outputs: 1; DatasheetVersion: Rev. B; PackageVersion: Rev. D, 06/2010; PackageReference: DE-UE-12; PackageDescription: 12-Pin Plastic DFN, Body 4 x 3 mm, Pitch 0.5 mm; Supplier 1: Digi-Key; Supplier Part Number 1: LTC3806EDE#TR-ND; Packing: Tape and Reel; RoHS: FALSE; Mounting Technology: Surface Mount; Code_JEDEC: MO-229; ComponentLink1Description: Manufacturer URL; ComponentLink1URL: http://www.linear.com/; ComponentLink2Description: Datasheet; ComponentLink2URL: http://cds.linear.com/docs/en/datasheet/3806fb.pdf; ComponentLink3Description: Package Specification; ComponentLink3URL: http://cds.linear.com/docs/en/packaging/DFN_12_05-08-1695.pdf
footprint LT-DE-UE-12_V (SON, 12-Leads, Body 4x3mm, Pitch 0.5mm, Thermal Pad 3.3x1.7mm)
pins: 1 RUN (in) "The RUN pin provides the user with an accurate means for sensing the input voltage and programming the start-up threshold for the converter. The falling RUN pin threshold is nominally 1.14V and the comparator has 91mV of (See Datasheet)", 2 ITH "Error Amplifier Compensation Pin. The current comparator input threshold increases with this control voltage. Nominal voltage range for this pin is 0V to 1.4V.", 3 FB (in) "Receives the feedback voltage from the external resistor divider across the main output. Nominal voltage for this pin in regulation is 1.230V.", 4 NC "Do Not Connect.", 5 VIN (power) "Main Supply Pin. Must be closely decoupled to ground.", 6 INTVCC (power) "The Internal 6.9V Regulator Output. The gate drivers and control circuits are powered from this voltage. Decouple this pin locally to the IC ground with a minimum 4.7uF low ESR ceramic capacitor.", 7 GND (power) "Ground Pins. Exposed pad must be tied to electrical ground.", 8 G2 (out) "Secondary-Side Gate Driver Output. This pin drives the gates of all of the synchronous rectifiers.", 9 G1 (out) "Primary-Side Gate Driver Output.", 10 SS (in) "Soft-Start. A capacitor between this pin and ground sets the rate at which the current comparator input threshold may increase when the IC is initially enabled. Increasing the size of the capacitor slows down the ramp rate (See Datasheet)", 11 NC "Do Not Connect.", 12 SENSE (in) "Current Sense Input for the Control Loop. Connect this pin to the current sense resistor in the source of the primary side power MOSFET. Internal leading edge blanking is provided.", 13 EP (power) "Ground Pins. Exposed pad must be tied to electrical ground."

## LTC3806EDE#TRPBF
designator U?
Synchronous Flyback DC/DC Controller Min, 12-pin SON (DE-UE-12), -40 to 85 degC, Pb-Free, Tape and Reel; Manufacturer: Linear Technology; PartNumber: LTC3806EDE#TRPBF; Number of Outputs: 1; DatasheetVersion: Rev. B; PackageVersion: Rev. D, 06/2010; PackageReference: DE-UE-12; PackageDescription: 12-Pin Plastic DFN, Body 4 x 3 mm, Pitch 0.5 mm; Supplier 1: Digi-Key; Supplier Part Number 1: LTC3806EDE#TRPBF-ND; Packing: Tape and Reel; RoHS: TRUE; Mounting Technology: Surface Mount; Code_JEDEC: MO-229; ComponentLink1Description: Manufacturer URL; ComponentLink1URL: http://www.linear.com/; ComponentLink2Description: Datasheet; ComponentLink2URL: http://cds.linear.com/docs/en/datasheet/3806fb.pdf; ComponentLink3Description: Package Specification; ComponentLink3URL: http://cds.linear.com/docs/en/packaging/DFN_12_05-08-1695.pdf
footprint LT-DE-UE-12_V (SON, 12-Leads, Body 4x3mm, Pitch 0.5mm, Thermal Pad 3.3x1.7mm)
pins: 1 RUN (in) "The RUN pin provides the user with an accurate means for sensing the input voltage and programming the start-up threshold for the converter. The falling RUN pin threshold is nominally 1.14V and the comparator has 91mV of (See Datasheet)", 2 ITH "Error Amplifier Compensation Pin. The current comparator input threshold increases with this control voltage. Nominal voltage range for this pin is 0V to 1.4V.", 3 FB (in) "Receives the feedback voltage from the external resistor divider across the main output. Nominal voltage for this pin in regulation is 1.230V.", 4 NC "Do Not Connect.", 5 VIN (power) "Main Supply Pin. Must be closely decoupled to ground.", 6 INTVCC (power) "The Internal 6.9V Regulator Output. The gate drivers and control circuits are powered from this voltage. Decouple this pin locally to the IC ground with a minimum 4.7uF low ESR ceramic capacitor.", 7 GND (power) "Ground Pins. Exposed pad must be tied to electrical ground.", 8 G2 (out) "Secondary-Side Gate Driver Output. This pin drives the gates of all of the synchronous rectifiers.", 9 G1 (out) "Primary-Side Gate Driver Output.", 10 SS (in) "Soft-Start. A capacitor between this pin and ground sets the rate at which the current comparator input threshold may increase when the IC is initially enabled. Increasing the size of the capacitor slows down the ramp rate (See Datasheet)", 11 NC "Do Not Connect.", 12 SENSE (in) "Current Sense Input for the Control Loop. Connect this pin to the current sense resistor in the source of the primary side power MOSFET. Internal leading edge blanking is provided.", 13 EP (power) "Ground Pins. Exposed pad must be tied to electrical ground."